# Altium footprint library Diamond Base CAN - 2 Leads.PcbLib: 7 footprints
Each footprint in its own frame and in the unit in brackets; x right, y up, seen from the top. Pads: shape width x height; smd on the part's side, far side on the other; paste and mask are expansions set on the pad; w line width, h text height; cw(c..) or ccw(c..) is an arc to the next point about the centre after c.
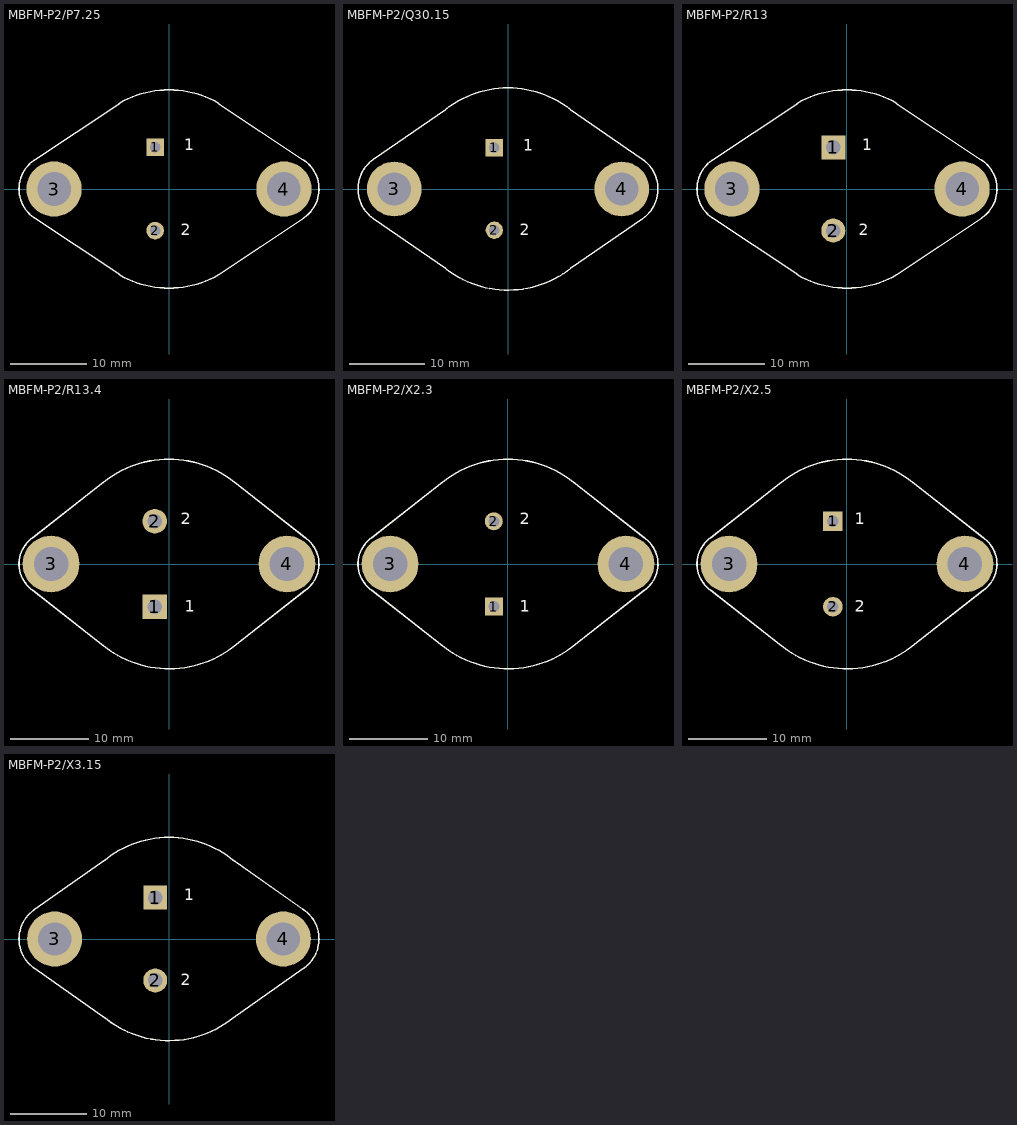
[diagram p0: the footprints below, top view; thin cyan lines are the x and y axes]

## MBFM-P2/P7.25 [mm] "Oval Flange Mount with (2) Offset Leads; Pin Spacing 10.93 mm; Lead Dia. 1.09 mm (max)"
height 8.94
pads (4):
  rect 2.3x2.3 hole 1.4: 1(-1.815,5.46)
  round 2.3 hole 1.4: 2(-1.815,-5.46)
  round 7.25 hole 4.4: 3(-15.075,0) 4(15.075,0)
Top Overlay:
  lines w0.2: -17.8,-3.7 -6.5,-11.2 ; -17.8,3.7 -6.5,11.2 ; -17.713,-3.768 cw(c-15.075,0) -17.713,3.768 ; -6.5,-11.258 ccw(c0,0) 6.5,-11.258 ; -6.5,11.258 cw(c0,0) 6.5,11.258 ; 6.5,11.2 17.6,3.8 ; 6.6,-11.2 17.7,-3.8 ; 17.58,3.858 cw(c15.075,0) 17.713,-3.768
  text "2" at 1.524,-6.096 h1.5
  text "1" at 2.032,5.08 h1.5

## MBFM-P2/Q30.15 [mm] "Oval Flange Mount with (2) Offset Leads; Pin Spacing 10.92 mm; Lead Dia. 1.09 mm (max)"
height 11.43
pads (4):
  rect 2.3x2.3 hole 1.4: 1(-1.815,5.46)
  round 2.3 hole 1.4: 2(-1.815,-5.46)
  round 7.25 hole 4.4: 3(-15.075,0) 4(15.075,0)
Top Overlay:
  lines w0.2: -17.84,-3.93 -8.299,-10.521 ; -17.84,3.94 -8.299,10.521 ; -17.828,-3.932 cw(c-15.075,0) -17.828,3.932 ; -8.613,-10.265 ccw(c0,0) 8.298,-10.521 17.82,-3.94 ; -8.613,10.265 cw(c0,0) 8.613,10.265 ; 8.299,10.521 17.68,4.03 ; 17.689,4.026 cw(c15.075,0) 17.828,-3.932
  text "1" at 2.032,5.08 h1.5
  text "2" at 1.524,-6.096 h1.5

## MBFM-P2/R13 [mm] "Oval Flange Mount with (2) Offset Leads; Pin Spacing 10.92 mm; Lead Dia. 1.6 mm (max)"
height 8.89
pads (4):
  rect 3.15x3.15 hole 1.9: 1(-1.795,5.46)
  round 3.15 hole 1.9: 2(-1.795,-5.46)
  round 7.25 hole 4.4: 3(-15.095,0) 4(15.095,0)
Top Overlay:
  lines w0.2: -17.8,-3.7 -6.5,-11.2 ; -17.8,3.7 -6.5,11.2 ; -17.713,-3.768 cw(c-15.075,0) -17.713,3.768 ; -6.5,-11.258 ccw(c0,0) 6.5,-11.258 ; -6.5,11.258 cw(c0,0) 6.5,11.258 ; 6.5,11.2 17.6,3.8 ; 6.6,-11.2 17.7,-3.8 ; 17.58,3.858 cw(c15.075,0) 17.713,-3.768
  text "2" at 1.524,-6.096 h1.5
  text "1" at 2.032,5.08 h1.5

## MBFM-P2/R13.4 [mm] "Oval Flange Mount with (2) Offset Leads; Pin Spacing 10.92 mm; Lead Dia. 1.57 mm (max)"
height 7.87
pads (4):
  rect 3.15x3.15 hole 1.9: 1(-1.815,-5.46)
  round 3.15 hole 1.9: 2(-1.815,5.46)
  round 7.25 hole 4.4: 3(-15.075,0) 4(15.075,0)
Top Overlay:
  lines w0.2: -17.427,-3.359 -8.299,-10.521 ; -17.427,-3.358 cw(c-15.075,0) -17.427,3.359 -8.299,10.521 ; -8.613,-10.265 ccw(c0,0) 8.298,-10.521 17.427,-3.359 ; -8.613,10.265 cw(c0,0) 8.613,10.265 ; 8.299,10.521 17.427,3.359 ; 17.308,3.439 cw(c15.075,0) 17.427,-3.358
  text "2" at 1.524,5.08 h1.5
  text "1" at 2.032,-6.096 h1.5

## MBFM-P2/X2.3 [mm] "Oval Flange Mount with (2) Offset Leads; Pin Spacing 10.92 mm; Lead Dia. 1.1 mm (max)"
height 8.7
pads (4):
  rect 2.3x2.3 hole 1.4: 1(-1.815,-5.46)
  round 2.3 hole 1.4: 2(-1.815,5.46)
  round 7.25 hole 4.4: 3(-15.075,0) 4(15.075,0)
Top Overlay:
  lines w0.2: -17.427,-3.359 -8.299,-10.521 ; -17.427,-3.358 cw(c-15.075,0) -17.427,3.359 -8.299,10.521 ; -8.613,-10.265 ccw(c0,0) 8.298,-10.521 17.427,-3.359 ; -8.613,10.265 cw(c0,0) 8.613,10.265 ; 8.299,10.521 17.427,3.359 ; 17.308,3.439 cw(c15.075,0) 17.427,-3.358
  text "2" at 1.524,5.08 h1.5
  text "1" at 1.524,-6.096 h1.5

## MBFM-P2/X2.5 [mm] "Oval Flange Mount with (2) Offset Leads; Pin Spacing 10.92 mm; Lead Dia. 1.15 mm (max)"
height 8.92
pads (4):
  rect 2.5x2.5 hole 1.5: 1(-1.815,5.46)
  round 2.5 hole 1.5: 2(-1.815,-5.46)
  round 7.25 hole 4.4: 3(-15.075,0) 4(15.075,0)
Top Overlay:
  lines w0.2: -17.427,-3.359 -8.299,-10.521 ; -17.427,-3.358 cw(c-15.075,0) -17.427,3.359 -8.299,10.521 ; -8.613,-10.265 ccw(c0,0) 8.298,-10.521 17.427,-3.359 ; -8.613,10.265 cw(c0,0) 8.613,10.265 ; 8.299,10.521 17.427,3.359 ; 17.308,3.439 cw(c15.075,0) 17.427,-3.358
  text "1" at 1.016,5.08 h1.5
  text "2" at 1.016,-6.096 h1.5

## MBFM-P2/X3.15 [mm] "Oval Flange Mount with (2) Offset Leads; Pin Spacing 10.92 mm; Lead Dia. 1.6 mm (max)"
height 8.38
pads (4):
  rect 3.15x3.15 hole 1.9: 1(-1.815,5.46)
  round 3.15 hole 1.9: 2(-1.815,-5.46)
  round 7.25 hole 4.4: 3(-15.075,0) 4(15.075,0)
Top Overlay:
  lines w0.2: -17.772,3.851 -8.299,10.521 ; -17.771,-3.85 cw(c-15.075,0) -17.771,3.85 ; -17.757,-3.854 -8.299,-10.521 ; -8.613,-10.265 ccw(c0,0) 8.298,-10.521 17.758,-3.862 ; -8.613,10.265 cw(c0,0) 8.613,10.265 ; 8.299,10.521 17.626,3.944 ; 17.635,3.942 cw(c15.075,0) 17.771,-3.85
  text "1" at 2.032,5.08 h1.5
  text "2" at 1.524,-6.096 h1.5